# EAGLE library part MIC5201-X.XYM (library micrel)
LDO REGULATOR 200mA Low-Dropout Regulator
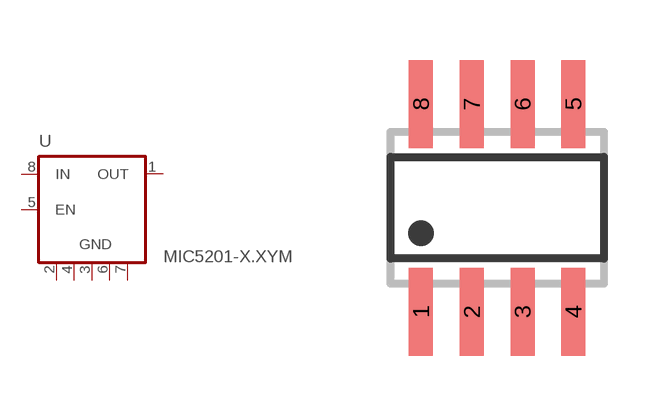
[diagram p16: symbol with the pads of SO08; footprint SO08]

Designator prefix U

## MIC5201-X.XYM  [SO08]
1  OUT  pas
2  NC  pas
3  GND  pas
4  NC  pas
5  EN  in
6  NC  pas
7  NC  pas
8  IN  in

## Footprint SO08 (pad centres in mm)
SMALL OUTLINE INTEGRATED CIRCUIT body 3.9 mm/JEDEC MS-012AA
smd 0.6 x 2.2: 1 -1.905,-2.6; 2 -0.635,-2.6; 3 0.635,-2.6; 4 1.905,-2.6; 5 1.905,2.6; 6 0.635,2.6; 7 -0.635,2.6; 8 -1.905,2.6